# EAGLE library part INA333 (library op-amp)
OP-AMP - Single Micro-Power (50mA), Zerø-Drift, Rail-to-Rail Out, Instrumentation Amplifier
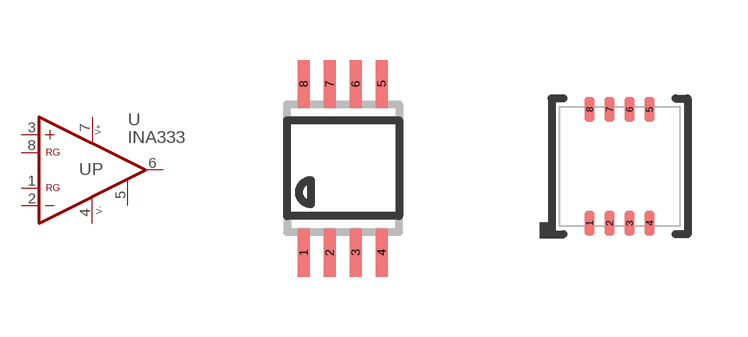
[diagram p48: symbol with the pads of MSOP08; footprints MSOP08, DFN8-3X3]

Designator prefix U; gates A=INA333 G$2=_REF P=PWRI_V+-

## INA333DGK  [MSOP08]
1  A:RG  in
2  A:-IN  in
3  A:+IN  in
4  P:V-  pas
5  G$2:REF  pas
6  A:OUT  out
7  P:V+  pas
8  A:RG  in

## INA333DRG  [DFN8-3X3]
Pads as for MSOP08

## Footprint MSOP08 (pad centres in mm)
Mini Small Outline Package
smd 0.3 x 1.2: 1 -0.976,-2.113; 2 -0.326,-2.113; 3 0.324,-2.113; 4 0.974,-2.113; 5 0.974,2.112; 6 0.324,2.112; 7 -0.326,2.112; 8 -0.976,2.112

## Footprint DFN8-3X3 (pad centres in mm)
DFN-8 or 8SON
smd 0.25 x 0.6: 1 -0.75,-1.425; 2 -0.25,-1.425; 3 0.25,-1.425; 4 0.75,-1.425; 5 0.75,1.425; 6 0.25,1.425; 7 -0.25,1.425; 8 -0.75,1.425